# Altium integrated library Infineon_Power_Supply_Voltage_Regulator.IntLib: 346 symbols (part 5 of 16)
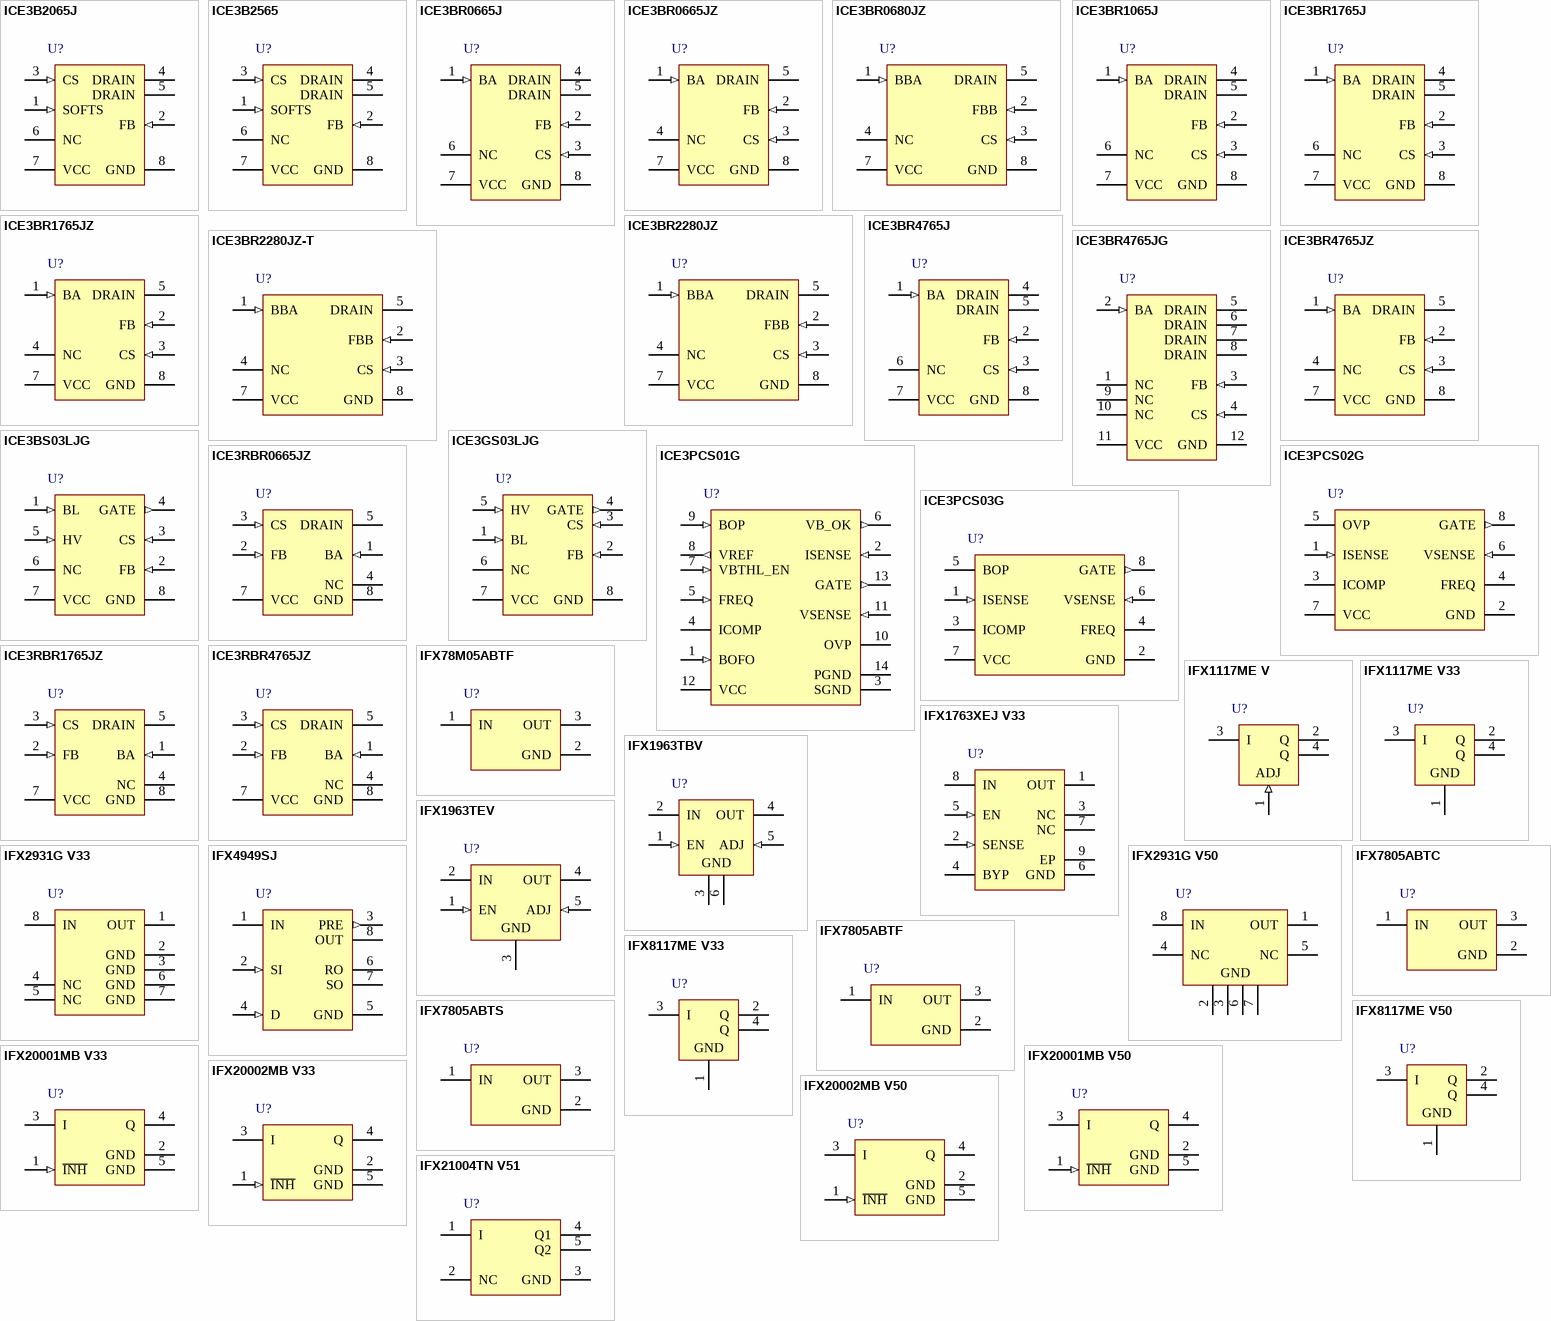
[diagram p13: symbols ICE3B2065J to IFX21004TN V51]

## IFX8117ME V33
designator U?
1 A Low-Dropout Linear Voltage Regulator, 6.25 to 15 V Operating, 1000 mA, -40 to 125 degC, PG-SOT223 (SC-73), Reel, Green; Manufacturer: Infineon; PartNumber: IFX8117ME V33; Accuracy: 1.0 %; Automotive Qualified: FALSE; Dropout Voltage: 1200 mV; Green: TRUE; Max Number Reflow: 3; Max Peak Reflow Temp: 260 degC; Max. Output Current: 1000 mA; Output Voltage: 3.3 V; Regulator Type: Linear->single output; Typical Quiescent Current: 5000 uA; DatasheetVersion: Rev. 1.01; PackageVersion: Apr-08; PackageReference: PG-SOT223 (SC-73); PackageDescription: 4-Pin Small Outline Transistor Package, 6.5 x 3.5 mm Body, 2.3 mm Pitch; Supplier 1: Mouser; Supplier Part Number 1: 726-IFX8117MEV33; Supplier 2: Digi-Key; Supplier Part Number 2: IFX8117ME V33INTR-ND; Supplier 3: Digi-Key; Supplier Part Number 3: IFX8117ME V33INCT-ND; Supplier 4: Digi-Key; Supplier Part Number 4: IFX8117ME V33INDKR-ND; MSL: 1; Packing: Reel; Reset: FALSE; Status Output: FALSE; Mounting Technology: Surface Mount; ComponentLink1Description: Manufacturer URL; ComponentLink1URL: http://www.infineon.com/; ComponentLink2Description: Datasheet; ComponentLink2URL: http://www.infineon.com/dgdl/IFX8117_DS_101.pdf?folderId=db3a30431a5c32f2011a8084a04a6500&fileId=db3a30432a7fedfc012aad7cf26c0b0d; ComponentLink3Description: Package Specification; ComponentLink3URL: http://www.infineon.com/dgdl/SOT223-Package_Overview.pdf?folderId=db3a30431936bc4b0119530470b03c3d&fileId=db3a30431936bc4b0119531d40b93c5c
footprint INF-PG-SOT223_SC-73_N (SOT223, 4-Leads, Body 6.5x3.5mm, Pitch 2.3mm, IPC Medium Density)
footprint INF-PG-SOT223_SC-73_L (SOT223, 4-Leads, Body 6.5x3.5mm, Pitch 2.3mm, IPC High Density)
footprint INF-PG-SOT223_SC-73_M (SOT223, 4-Leads, Body 6.5x3.5mm, Pitch 2.3mm, IPC Low Density)
pins: 1 GND (power), 2 Q (power) "Output", 3 I (power) "Input", 4 Q (power) "Output"

## IFX8117ME V50
designator U?
1 A Low-Dropout Linear Voltage Regulator, 4.55 to 15 V Operating, 1000 mA, -40 to 125 degC, PG-SOT223 (SC-73), Reel, Green; Manufacturer: Infineon; PartNumber: IFX8117ME V50; Accuracy: 1.0 %; Automotive Qualified: FALSE; Dropout Voltage: 1200 mV; Green: TRUE; Max Number Reflow: 3; Max Peak Reflow Temp: 260 degC; Max. Output Current: 1000 mA; Output Voltage: 5 V; Regulator Type: Linear->single output; Typical Quiescent Current: 5000 uA; DatasheetVersion: Rev. 1.01; PackageVersion: Apr-08; PackageReference: PG-SOT223 (SC-73); PackageDescription: 4-Pin Small Outline Transistor Package, 6.5 x 3.5 mm Body, 2.3 mm Pitch; Supplier 1: Mouser; Supplier Part Number 1: 726-IFX8117MEV50; Supplier 2: Digi-Key; Supplier Part Number 2: IFX8117ME V50INTR-ND; Supplier 3: Digi-Key; Supplier Part Number 3: IFX8117ME V50INCT-ND; Supplier 4: Digi-Key; Supplier Part Number 4: IFX8117ME V50INDKR-ND; MSL: 1; Packing: Reel; Reset: FALSE; Status Output: FALSE; Mounting Technology: Surface Mount; ComponentLink1Description: Manufacturer URL; ComponentLink1URL: http://www.infineon.com/; ComponentLink2Description: Datasheet; ComponentLink2URL: http://www.infineon.com/dgdl/IFX8117_DS_101.pdf?folderId=db3a30431a5c32f2011a8084a04a6500&fileId=db3a30432a7fedfc012aad7cf26c0b0d; ComponentLink3Description: Package Specification; ComponentLink3URL: http://www.infineon.com/dgdl/SOT223-Package_Overview.pdf?folderId=db3a30431936bc4b0119530470b03c3d&fileId=db3a30431936bc4b0119531d40b93c5c
footprint INF-PG-SOT223_SC-73_N (SOT223, 4-Leads, Body 6.5x3.5mm, Pitch 2.3mm, IPC Medium Density)
footprint INF-PG-SOT223_SC-73_L (SOT223, 4-Leads, Body 6.5x3.5mm, Pitch 2.3mm, IPC High Density)
footprint INF-PG-SOT223_SC-73_M (SOT223, 4-Leads, Body 6.5x3.5mm, Pitch 2.3mm, IPC Low Density)
pins: 1 GND (power), 2 Q (power) "Output", 3 I (power) "Input", 4 Q (power) "Output"

## IFX20001MB V33
designator U?
Low Dropout Voltage Regulator, 4 to 45 V Operating, 30 mA, -40 to 125 degC, PG-SCT595, Reel, Green; Manufacturer: Infineon; PartNumber: IFX20001MB V33; Accuracy: 4.0 %; Automotive Qualified: FALSE; Dropout Voltage: 250 mV; Green: TRUE; Max Number Reflow: 3; Max Peak Reflow Temp: 260 degC; Max. Output Current: 30 mA; Output Voltage: 3.3 V; Regulator Type: Linear->single output; Typical Quiescent Current: 110 uA; DatasheetVersion: Rev. 1.1; PackageVersion: Apr-08; PackageReference: PG-SCT595; PackageDescription: 5-Pin Semiconductor Transistor Package, 2.9 x 1.6 mm Body, 0.95 mm Pitch; Supplier 1: Mouser; Supplier Part Number 1: 726-IFX20001MBV33; Supplier 2: Newark; Supplier Part Number 2: 78X5179; Supplier 3: Farnell; Supplier Part Number 3: 2432502; Supplier 4: Digi-Key; Supplier Part Number 4: IFX20001MB V33INTR-ND; Supplier 5: Digi-Key; Supplier Part Number 5: IFX20001MB V33INCT-ND; Supplier 6: Digi-Key; Supplier Part Number 6: IFX20001MB V33INDKR-ND; MSL: 1; Packing: Reel; Reset: FALSE; Status Output: FALSE; Mounting Technology: Surface Mount; ComponentLink1Description: Manufacturer URL; ComponentLink1URL: http://www.infineon.com/; ComponentLink2Description: Datasheet; ComponentLink2URL: http://www.infineon.com/dgdl/IFX20001-Data-Sheet-11-Infineon.pdf?folderId=db3a30431ff988150120802bce1d257a&fileId=db3a304320d39d590120f61b55b769ca; ComponentLink3Description: Package Specification; ComponentLink3URL: http://www.infineon.com/dgdl/SCT595-Package_Overview.pdf?folderId=db3a30431936bc4b01195289a4e23b8a&fileId=db3a30431936bc4b0119529a880d3bb2
footprint INF-PG-SCT595_V (SOT23, 5-Leads, Body 2.9x1.6mm, Pitch 0.95mm)
pins: 1 ~{INH} (in) "Inhibit input; high level to turn on the IC", 2 GND (power) "Ground; connected to pin 5", 3 I (power) "Input voltage", 4 Q (power) "Output voltage; must be blocked with a capacitor CQ > = 3.3 uF", 5 GND (power) "Ground; connected to pin 2"

## IFX20001MB V50
designator U?
Low Dropout Voltage Regulator, 5.5 to 45 V Operating, 30 mA, -40 to 125 degC, PG-SCT595, Reel, Green; Manufacturer: Infineon; PartNumber: IFX20001MB V50; Accuracy: 4.0 %; Automotive Qualified: FALSE; Dropout Voltage: 250 mV; Green: TRUE; Max Number Reflow: 3; Max Peak Reflow Temp: 260 degC; Max. Output Current: 30 mA; Output Voltage: 5 V; Regulator Type: Linear->single output; Typical Quiescent Current: 110 uA; DatasheetVersion: Rev. 1.1; PackageVersion: Apr-08; PackageReference: PG-SCT595; PackageDescription: 5-Pin Semiconductor Transistor Package, 2.9 x 1.6 mm Body, 0.95 mm Pitch; Supplier 1: Mouser; Supplier Part Number 1: 726-IFX20001MBV50; Supplier 2: Newark; Supplier Part Number 2: 47W3451; Supplier 3: Farnell; Supplier Part Number 3: 2215568; Supplier 4: Digi-Key; Supplier Part Number 4: IFX20001MB V50INTR-ND; Supplier 5: Digi-Key; Supplier Part Number 5: IFX20001MB V50INCT-ND; Supplier 6: Digi-Key; Supplier Part Number 6: IFX20001MB V50INDKR-ND; MSL: 1; Packing: Reel; Reset: FALSE; Status Output: FALSE; Mounting Technology: Surface Mount; ComponentLink1Description: Manufacturer URL; ComponentLink1URL: http://www.infineon.com/; ComponentLink2Description: Datasheet; ComponentLink2URL: http://www.infineon.com/dgdl/IFX20001-Data-Sheet-11-Infineon.pdf?folderId=db3a30431ff988150120802bce1d257a&fileId=db3a304320d39d590120f61b55b769ca; ComponentLink3Description: Package Specification; ComponentLink3URL: http://www.infineon.com/dgdl/SCT595-Package_Overview.pdf?folderId=db3a30431936bc4b01195289a4e23b8a&fileId=db3a30431936bc4b0119529a880d3bb2
footprint INF-PG-SCT595_V (SOT23, 5-Leads, Body 2.9x1.6mm, Pitch 0.95mm)
pins: 1 ~{INH} (in) "Inhibit Input", 2 GND (power) "Ground", 3 I (power) "Input Voltage", 4 Q (power) "Output voltage", 5 GND (power) "Ground"

## IFX20002MB V33
designator U?
Low Dropout Voltage Regulator, 4.5 to 45 V Operating, 30 mA, -40 to 125 degC, PG-SCT595, Reel, Green; Manufacturer: Infineon; PartNumber: IFX20002MB V33; Accuracy: 4.0 %; Automotive Qualified: FALSE; Dropout Voltage: 250 mV; Green: TRUE; Max Number Reflow: 3; Max Peak Reflow Temp: 260 degC; Max. Output Current: 30 mA; Output Voltage: 3.3 V; Regulator Type: single output; Typical Quiescent Current: 130 uA; DatasheetVersion: Rev. 1.0; PackageVersion: Apr-08; PackageReference: PG-SCT595; PackageDescription: 5-Pin Semiconductor Transistor Package, 2.9 x 1.6 mm Body, 0.95 mm Pitch; MSL: 1; Packing: Reel; Reset: FALSE; Status Output: FALSE; Mounting Technology: Surface Mount; ComponentLink1Description: Manufacturer URL; ComponentLink1URL: http://www.infineon.com/; ComponentLink2Description: Datasheet; ComponentLink2URL: http://www.infineon.com/dgdl/IFX20002-Data-Sheet-10-Infineon.pdf?folderId=db3a30431f848401011fcbf221ff04c3&fileId=db3a30433d68e984013d82fb138a7932; ComponentLink3Description: Package Specification; ComponentLink3URL: http://www.infineon.com/dgdl/SCT595-Package_Overview.pdf?folderId=db3a30431936bc4b01195289a4e23b8a&fileId=db3a30431936bc4b0119529a880d3bb2
footprint INF-PG-SCT595_V (SOT23, 5-Leads, Body 2.9x1.6mm, Pitch 0.95mm)
pins: 1 ~{INH} (in) "Inhibit Input", 2 GND (power) "Ground", 3 I (power) "Input Voltage", 4 Q (power) "Output voltage", 5 GND (power) "Ground"

## IFX20002MB V50
designator U?
Low Dropout Voltage Regulator, 5.5 to 45 V Operating, 30 mA, -40 to 125 degC, PG-SCT595, Reel, Green; Manufacturer: Infineon; PartNumber: IFX20002MB V50; Accuracy: 4.0 %; Automotive Qualified: FALSE; Dropout Voltage: 250 mV; Green: TRUE; Max Number Reflow: 3; Max Peak Reflow Temp: 260 degC; Max. Output Current: 30 mA; Output Voltage: 5 V; Regulator Type: single output; Typical Quiescent Current: 130 uA; DatasheetVersion: Rev. 1.0; PackageVersion: Apr-08; PackageReference: PG-SCT595; PackageDescription: 5-Pin Semiconductor Transistor Package, 2.9 x 1.6 mm Body, 0.95 mm Pitch; MSL: 1; Packing: Reel; Reset: FALSE; Status Output: FALSE; Mounting Technology: Surface Mount; ComponentLink1Description: Manufacturer URL; ComponentLink1URL: http://www.infineon.com/; ComponentLink2Description: Datasheet; ComponentLink2URL: http://www.infineon.com/dgdl/IFX20002-Data-Sheet-10-Infineon.pdf?folderId=db3a30431f848401011fcbf221ff04c3&fileId=db3a30433d68e984013d82fb138a7932; ComponentLink3Description: Package Specification; ComponentLink3URL: http://www.infineon.com/dgdl/SCT595-Package_Overview.pdf?folderId=db3a30431936bc4b01195289a4e23b8a&fileId=db3a30431936bc4b0119529a880d3bb2
footprint INF-PG-SCT595_V (SOT23, 5-Leads, Body 2.9x1.6mm, Pitch 0.95mm)
pins: 1 ~{INH} (in) "Inhibit Input", 2 GND (power) "Ground", 3 I (power) "Input Voltage", 4 Q (power) "Output voltage", 5 GND (power) "Ground"

## IFX21004TN V51
designator U?
Dual Voltage Regulator with 5 V and 15 V Outputs, 12 to 60 V Operating, 100 mA / 30 mA, -40 to 125 degC, PG-TO220-5-12, Reel, Green; Manufacturer: Infineon; PartNumber: IFX21004TN V51; Accuracy: 5.0 %, 5 %; Automotive Qualified: FALSE; Dropout Voltage: 5000/3000 mV; Green: TRUE; Output Voltage: 5 V / 15 V; Regulator Type: Linear->multiple output; Typical Quiescent Current: 700 uA; DatasheetVersion: Rev. 1.00; PackageVersion: Oct-07; PackageReference: PG-TO220-5-12; PackageDescription: 5-Pin Plastic (Green) Transistor Single Outline Package, 10 x 9.25 mm Body, 1.7 mm Pitch; Supplier 1: Mouser; Supplier Part Number 1: 726-IFX21004TNV51; Halogen-free: TRUE; Max. Output Current: 100 mA/30 mA; Packing: Reel; Reset: FALSE; Status Output: FALSE; Mounting Technology: Through Hole; ComponentLink1Description: Manufacturer URL; ComponentLink1URL: http://www.infineon.com/; ComponentLink2Description: Datasheet; ComponentLink2URL: http://www.infineon.com/dgdl/IFX21004TN-V51-Data+Sheet-Infineon-v10.pdf?folderId=db3a30431a5c32f2011a8084a04a6500&fileId=db3a30432cd42ee3012cdfd272526aa1; ComponentLink3Description: Package Specification; ComponentLink3URL: http://www.infineon.com/dgdl/TLE4276_DS_27.pdf?folderId=db3a304318f3fe290118f5a433570040&fileId=db3a30431c48a312011c5093e2fe003f&sId=db3a30443d67b5ca013d81e346312d68
footprint INF-PG-TO220-5-12 (FM, 5-Leads, Body 10x4.4mm, Pitch 1.7mm)
pins: 1 I (power) "Input voltage", 2 NC "not connected", 3 GND (power) "Ground", 4 Q1 (power) "5V-Output voltage, e.g. for microcontroller and logic circuit", 5 Q2 (power) "15V-Output voltage, e.g. for MOS driver circuit"

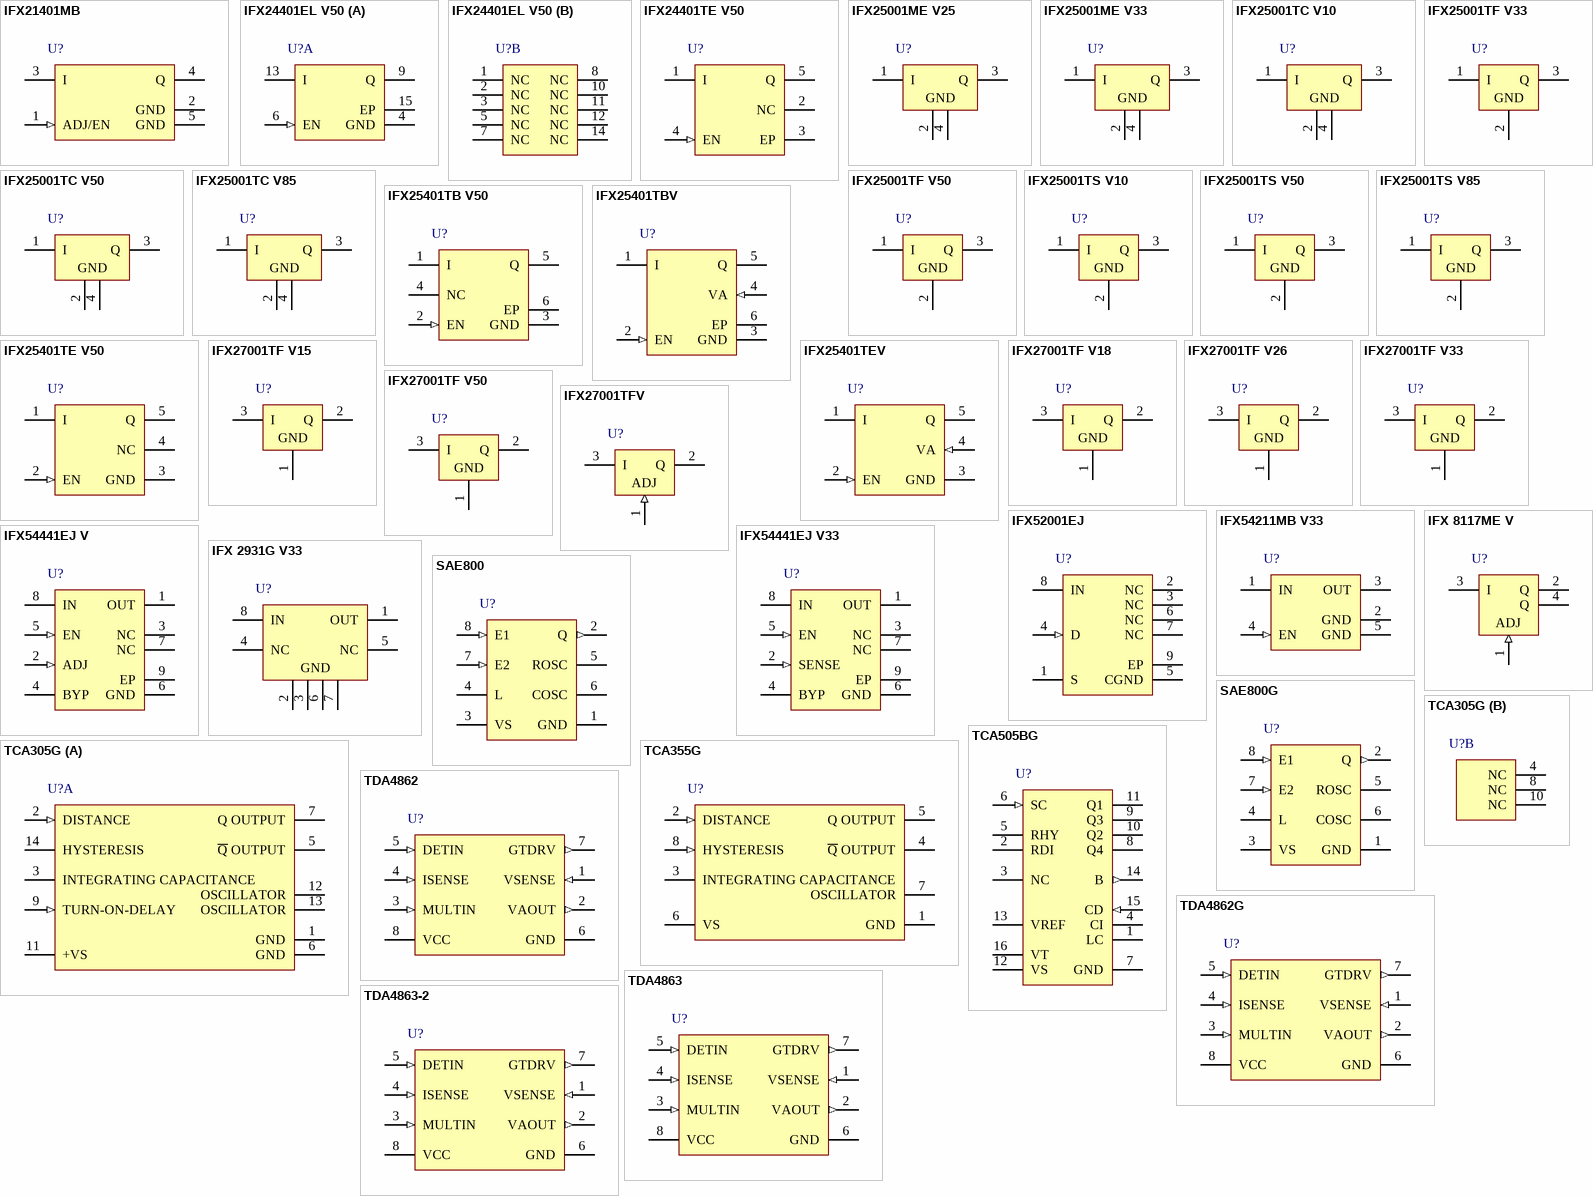
[diagram p3: symbols IFX21401MB to TDA4863-2]

## IFX21401MB
designator U?
Low Dropout Voltage Tracking Regulator, 4 to 45 V Operating, 50 mA, -40 to 125 degC, PG-SCT595, Reel, Green; Manufacturer: Infineon; PartNumber: IFX21401MB; Accuracy: 0.5 %; Automotive Qualified: FALSE; Dropout Voltage: 300 mV; Green: TRUE; Max Number Reflow: 3; Max Peak Reflow Temp: 260 degC; Max. Output Current: 50 mA; Output Voltage: adj.; Regulator Type: Linear->tracker; Typical Quiescent Current: 140 uA; DatasheetVersion: Rev. 1.01; PackageVersion: Apr-08; PackageReference: PG-SCT595; PackageDescription: 5-Pin Semiconductor Transistor Package, 2.9 x 1.6 mm Body, 0.95 mm Pitch; Supplier 1: Mouser; Supplier Part Number 1: 726-IFX21401MB; Supplier 2: Newark; Supplier Part Number 2: 47W3452; Supplier 3: Farnell; Supplier Part Number 3: 2215570; Supplier 4: Digi-Key; Supplier Part Number 4: IFX21401MBINTR-ND; Supplier 5: Digi-Key; Supplier Part Number 5: IFX21401MBINCT-ND; Supplier 6: Digi-Key; Supplier Part Number 6: IFX21401MBINDKR-ND; MSL: 1; Packing: Reel; Reset: FALSE; Status Output: FALSE; Mounting Technology: Surface Mount; ComponentLink1Description: Manufacturer URL; ComponentLink1URL: http://www.infineon.com/; ComponentLink2Description: Datasheet; ComponentLink2URL: http://www.infineon.com/dgdl/IFX21401_DS_101.pdf?folderId=db3a30431ff988150120802bce1d257a&fileId=db3a304320d39d590120f61daff769d0; ComponentLink3Description: Package Specification; ComponentLink3URL: http://www.infineon.com/dgdl/SCT595-Package_Overview.pdf?folderId=db3a30431936bc4b01195289a4e23b8a&fileId=db3a30431936bc4b0119529a880d3bb2
footprint INF-PG-SCT595_V (SOT23, 5-Leads, Body 2.9x1.6mm, Pitch 0.95mm)
pins: 1 ADJ/EN (in) "Adjust / Enable.", 2 GND (power) "Ground Reference.", 3 I (power) "Input.", 4 Q (power) "Tracker Output.", 5 GND (power) "Ground Reference."

## IFX24401EL V50
designator U?
Low Dropout Voltage Regulator, 5.5 to 42 V Operating, 300 mA, -40 to 125 degC, PG-SSOP-14-1, Reel, Green; Manufacturer: Infineon; PartNumber: IFX24401EL V50; Accuracy: 2.0 %; Automotive Qualified: FALSE; Dropout Voltage: 250 mV; Green: TRUE; Max Number Reflow: 3; Max Peak Reflow Temp: 260 degC; Max. Output Current: 300 mA; Output Voltage: 5 V; Regulator Type: Linear->single output; Typical Quiescent Current: 20 uA; DatasheetVersion: Rev. 1.02; PackageVersion: Oct-08; PackageReference: PG-SSOP-14-1; PackageDescription: 14-Pin Plastic (Green) Shrink Small Outline Package, 4.9 x 3.9 mm Body, 0.65 mm Pitch; Supplier 1: Mouser; Supplier Part Number 1: 726-IFX24401ELV50; Supplier 2: Digi-Key; Supplier Part Number 2: IFX24401EL V50INTR-ND; Supplier 3: Digi-Key; Supplier Part Number 3: IFX24401EL V50INCT-ND; Supplier 4: Digi-Key; Supplier Part Number 4: IFX24401EL V50INDKR-ND; Halogen-free: TRUE; MSL: 3; Packing: Reel; Reset: FALSE; Status Output: FALSE; Mounting Technology: Surface Mount; ComponentLink1Description: Manufacturer URL; ComponentLink1URL: http://www.infineon.com/; ComponentLink2Description: Datasheet; ComponentLink2URL: http://www.infineon.com/dgdl/IFX24401_DS_102.pdf?folderId=db3a30431ff988150120802bce1d257a&fileId=db3a304320d39d590120f61fb4d269d5; ComponentLink3Description: Package Specification; ComponentLink3URL: http://www.infineon.com/dgdl/PG-SSOP-14-1%2C-2%2C-3-Package_Overview.pdf?folderId=db3a304319bc939a0119bdaa53bc000b&fileId=db3a30431cdffaa4011ce10d798a0009
footprint INF-PG-SSOP-14-1_N (SOP, 14-Leads, Body 4.9x3.9mm, Pitch 0.65mm, Thermal Pad 3.2x2.85mm, IPC Medium Density)
footprint INF-PG-SSOP-14-1_L (SOP, 14-Leads, Body 4.9x3.9mm, Pitch 0.65mm, Thermal Pad 3.2x2.85mm, IPC High Density)
footprint INF-PG-SSOP-14-1_M (SOP, 14-Leads, Body 4.9x3.9mm, Pitch 0.65mm, Thermal Pad 3.2x2.85mm, IPC Low Density)
part A pins: 4 GND (power) "Ground", 6 EN (in) "Enable Input", 9 Q (power) "Output", 13 I (power) "Input", 15 EP (power) "Exposed Pad"
part B pins: 1 NC "No Connect", 2 NC "No Connect", 3 NC "No Connect", 5 NC "No Connect", 7 NC "No Connect", 8 NC "No Connect", 10 NC "No Connect", 11 NC "No Connect", 12 NC "No Connect", 14 NC "No Connect"

## IFX24401TE V50
designator U?
Low Dropout Voltage Regulator, 5.5 to 42 V Operating, 300 mA, -40 to 125 degC, PG-TO252-5-11, Reel, Green; Manufacturer: Infineon; PartNumber: IFX24401TE V50; Accuracy: 2.0 %; Automotive Qualified: FALSE; Dropout Voltage: 250 mV; Green: TRUE; Max Number Reflow: 3; Max Peak Reflow Temp: 260 degC; Max. Output Current: 300 mA; Output Voltage: 5 V; Regulator Type: Linear->single output; Typical Quiescent Current: 20 uA; DatasheetVersion: Rev. 1.02; PackageVersion: Nov-10; PackageReference: PG-TO252-5-11; PackageDescription: 5-Pin Plastic (Green) Transistor Single Outline Package, 6.5 x 6.12 mm Body, 1.14 mm Pitch; Supplier 1: Mouser; Supplier Part Number 1: 726-IFX24401TEV50; Supplier 2: Digi-Key; Supplier Part Number 2: IFX24401TE V50INTR-ND; Supplier 3: Digi-Key; Supplier Part Number 3: IFX24401TE V50INCT-ND; Supplier 4: Digi-Key; Supplier Part Number 4: IFX24401TE V50INDKR-ND; Halogen-free: TRUE; MSL: 1; Packing: Reel; Reset: FALSE; Status Output: FALSE; Mounting Technology: Surface Mount; ComponentLink1Description: Manufacturer URL; ComponentLink1URL: http://www.infineon.com/; ComponentLink2Description: Datasheet; ComponentLink2URL: http://www.infineon.com/dgdl/IFX24401_DS_102.pdf?folderId=db3a30431ff988150120802bce1d257a&fileId=db3a304320d39d590120f61fb4d269d5; ComponentLink3Description: Package Specification; ComponentLink3URL: http://www.infineon.com/dgdl/TLE7276-Data+Sheet-+v1_11.pdf?folderId=db3a304412b407950112b408e8c90004&fileId=db3a304412b407950112b436c53f66c8&sId=db3a30433db6f09f013dc0e43c0428c1
footprint INF-PG-TO252-5-11_N (DPAK, 5-Leads, Body 6.5x6.12mm, Pitch 1.14mm, IPC Medium Density)
footprint INF-PG-TO252-5-11_L (DPAK, 5-Leads, Body 6.5x6.12mm, Pitch 1.14mm, IPC High Density)
footprint INF-PG-TO252-5-11_M (DPAK, 5-Leads, Body 6.5x6.12mm, Pitch 1.14mm, IPC Low Density)
pins: 1 I (power) "Input", 2 NC "No Connect", 3 EP (power) "Heat Slug", 4 EN (in) "Enable Input", 5 Q (power) "Output"

## IFX25001ME V25
designator U?
Low Dropout Voltage Regulator, 4.7 to 40 V Operating, 400 mA, -40 to 125 degC, PG-SOT223 (SC-73), Reel, Green; Manufacturer: Infineon; PartNumber: IFX25001ME V25; Accuracy: 4.0 %; Automotive Qualified: FALSE; Dropout Voltage: 1000 mV; Green: TRUE; Max Number Reflow: 3; Max Peak Reflow Temp: 260 degreesC; Max. Output Current: 400 mA; Output Voltage: 2.5 V; Regulator Type: Linear->single output; Typical Quiescent Current: 100 uA; DatasheetVersion: Rev. 1.02; PackageVersion: Apr-08; PackageReference: PG-SOT223 (SC-73); PackageDescription: 4-Pin Small Outline Transistor Package, 6.5 x 3.5 mm Body, 2.3 mm Pitch; Supplier 1: Mouser; Supplier Part Number 1: 726-IFX25001MEV25; Supplier 2: Digi-Key; Supplier Part Number 2: IFX25001ME V25INTR-ND; Supplier 3: Digi-Key; Supplier Part Number 3: IFX25001ME V25INCT-ND; Supplier 4: Digi-Key; Supplier Part Number 4: IFX25001ME V25INDKR-ND; MSL: 1; Packing: Reel; Reset: FALSE; Status Output: FALSE; Mounting Technology: Surface Mount; ComponentLink1Description: Manufacturer URL; ComponentLink1URL: http://www.infineon.com/; ComponentLink2Description: Datasheet; ComponentLink2URL: http://www.infineon.com/dgdl/IFX25001_DS_102.pdf?folderId=db3a30431ff988150120802bce1d257a&fileId=db3a304320d39d590120f620f1e269da; ComponentLink3Description: Package Specification; ComponentLink3URL: http://www.infineon.com/dgdl/SOT223-Package_Overview.pdf?folderId=db3a30431936bc4b0119530470b03c3d&fileId=db3a30431936bc4b0119531d40b93c5c
footprint INF-PG-SOT223_SC-73_N (SOT223, 4-Leads, Body 6.5x3.5mm, Pitch 2.3mm, IPC Medium Density)
footprint INF-PG-SOT223_SC-73_L (SOT223, 4-Leads, Body 6.5x3.5mm, Pitch 2.3mm, IPC High Density)
footprint INF-PG-SOT223_SC-73_M (SOT223, 4-Leads, Body 6.5x3.5mm, Pitch 2.3mm, IPC Low Density)
pins: 1 I (power) "Input", 2 GND (power) "Ground", 3 Q (power) "Output", 4 GND (power) "Heat Slug"

## IFX25001ME V33
designator U?
Low Dropout Voltage Regulator, 4.7 to 40 V Operating, 400 mA, -40 to 125 degC, PG-SOT223 (SC-73), Reel, Green; Manufacturer: Infineon; PartNumber: IFX25001ME V33; Accuracy: 4.0 %; Automotive Qualified: FALSE; Dropout Voltage: 700 mV; Green: TRUE; Max Number Reflow: 3; Max Peak Reflow Temp: 260 degreesC; Max. Output Current: 400 mA; Output Voltage: 3.3 V; Regulator Type: Linear->single output; Typical Quiescent Current: 100 uA; DatasheetVersion: Rev. 1.02; PackageVersion: Apr-08; PackageReference: PG-SOT223 (SC-73); PackageDescription: 4-Pin Small Outline Transistor Package, 6.5 x 3.5 mm Body, 2.3 mm Pitch; Supplier 1: Mouser; Supplier Part Number 1: 726-IFX25001MEV33; Supplier 2: Newark; Supplier Part Number 2: 47W3453; Supplier 3: Farnell; Supplier Part Number 3: 2215569; Supplier 4: Digi-Key; Supplier Part Number 4: IFX25001ME V33INTR-ND; Supplier 5: Digi-Key; Supplier Part Number 5: IFX25001ME V33INCT-ND; Supplier 6: Digi-Key; Supplier Part Number 6: IFX25001ME V33INDKR-ND; MSL: 1; Packing: Reel; Reset: FALSE; Status Output: FALSE; Mounting Technology: Surface Mount; ComponentLink1Description: Manufacturer URL; ComponentLink1URL: http://www.infineon.com/; ComponentLink2Description: Datasheet; ComponentLink2URL: http://www.infineon.com/dgdl/IFX25001_DS_102.pdf?folderId=db3a30431ff988150120802bce1d257a&fileId=db3a304320d39d590120f620f1e269da; ComponentLink3Description: Package Specification; ComponentLink3URL: http://www.infineon.com/dgdl/SOT223-Package_Overview.pdf?folderId=db3a30431936bc4b0119530470b03c3d&fileId=db3a30431936bc4b0119531d40b93c5c
footprint INF-PG-SOT223_SC-73_N (SOT223, 4-Leads, Body 6.5x3.5mm, Pitch 2.3mm, IPC Medium Density)
footprint INF-PG-SOT223_SC-73_L (SOT223, 4-Leads, Body 6.5x3.5mm, Pitch 2.3mm, IPC High Density)
footprint INF-PG-SOT223_SC-73_M (SOT223, 4-Leads, Body 6.5x3.5mm, Pitch 2.3mm, IPC Low Density)
pins: 1 I (power) "Input", 2 GND (power) "Ground", 3 Q (power) "Output", 4 GND (power) "Heat Slug"

## IFX25001TC V10
designator U?
Low Dropout Voltage Regulator, 10.5 to 40 V Operating, 400 mA, -40 to 125 degC, PG-TO263-3-1, Reel, Green; Manufacturer: Infineon; PartNumber: IFX25001TC V10; Accuracy: 4.0 %; Automotive Qualified: FALSE; Dropout Voltage: 250 mV; Green: TRUE; Max Number Reflow: 3; Max Peak Reflow Temp: 260 degreesC; Max. Output Current: 400 mA; Output Voltage: 10 V; Regulator Type: Linear->single output; Typical Quiescent Current: 100 uA; DatasheetVersion: Rev. 1.02; PackageVersion: Jan-10; PackageReference: PG-TO263-3-1; PackageDescription: 3-Pin Plastic (Green) Transistor Single Outline Package, 10 x 9.25 mm Body, 2.54 mm Pitch; Supplier 1: Mouser; Supplier Part Number 1: 726-IFX25001TCV10; Supplier 2: Digi-Key; Supplier Part Number 2: IFX25001TC V10INTR-ND; Supplier 3: Digi-Key; Supplier Part Number 3: IFX25001TC V10INCT-ND; Supplier 4: Digi-Key; Supplier Part Number 4: IFX25001TC V10INDKR-ND; Halogen-free: TRUE; MSL: 1; Packing: Reel; Reset: FALSE; Status Output: FALSE; Mounting Technology: Surface Mount; ComponentLink1Description: Manufacturer URL; ComponentLink1URL: http://www.infineon.com/; ComponentLink2Description: Datasheet; ComponentLink2URL: http://www.infineon.com/dgdl/IFX25001_DS_102.pdf?folderId=db3a30431ff988150120802bce1d257a&fileId=db3a304320d39d590120f620f1e269da; ComponentLink3Description: Package Specification; ComponentLink3URL: http://www.infineon.com/dgdl/TLE42744_DS_11.pdf?folderId=db3a304318f3fe290118f5a433570040&fileId=db3a304327b897500128012ccafe37d2&sId=db3a30443d67b5ca013d83f7c0ea327b
footprint INF-PG-TO263-3-1_N (DPAK, 3-Leads, Body 10x9.25mm, Pitch 2.54mm, IPC Medium Density)
footprint INF-PG-TO263-3-1_L (DPAK, 3-Leads, Body 10x9.25mm, Pitch 2.54mm, IPC High Density)
footprint INF-PG-TO263-3-1_M (DPAK, 3-Leads, Body 10x9.25mm, Pitch 2.54mm, IPC Low Density)
pins: 1 I (power) "Input", 2 GND (power) "Ground", 3 Q (power) "Output", 4 GND (power) "Heat Slug"

## IFX25001TC V50
designator U?
Low Dropout Voltage Regulator, 5.5 to 40 V Operating, 400 mA, -40 to 125 degC, PG-TO263-3-1, Reel, Green; Manufacturer: Infineon; PartNumber: IFX25001TC V50; Accuracy: 4.0 %; Automotive Qualified: FALSE; Dropout Voltage: 250 mV; Green: TRUE; Max Number Reflow: 3; Max Peak Reflow Temp: 260 degreesC; Max. Output Current: 400 mA; Output Voltage: 5 V; Regulator Type: Linear->single output; Typical Quiescent Current: 100 uA; DatasheetVersion: Rev. 1.02; PackageVersion: Jan-10; PackageReference: PG-TO263-3-1; PackageDescription: 3-Pin Plastic (Green) Transistor Single Outline Package, 10 x 9.25 mm Body, 2.54 mm Pitch; Supplier 1: Mouser; Supplier Part Number 1: 726-IFX25001TCV50; Supplier 2: Digi-Key; Supplier Part Number 2: IFX25001TC V50INTR-ND; Supplier 3: Digi-Key; Supplier Part Number 3: IFX25001TC V50INCT-ND; Supplier 4: Digi-Key; Supplier Part Number 4: IFX25001TC V50INDKR-ND; Halogen-free: TRUE; MSL: 1; Packing: Reel; Reset: FALSE; Status Output: FALSE; Mounting Technology: Surface Mount; ComponentLink1Description: Manufacturer URL; ComponentLink1URL: http://www.infineon.com/; ComponentLink2Description: Datasheet; ComponentLink2URL: http://www.infineon.com/dgdl/IFX25001_DS_102.pdf?folderId=db3a30431ff988150120802bce1d257a&fileId=db3a304320d39d590120f620f1e269da; ComponentLink3Description: Package Specification; ComponentLink3URL: http://www.infineon.com/dgdl/TLE42744_DS_11.pdf?folderId=db3a304318f3fe290118f5a433570040&fileId=db3a304327b897500128012ccafe37d2&sId=db3a30443d67b5ca013d83f7c0ea327b
footprint INF-PG-TO263-3-1_N (DPAK, 3-Leads, Body 10x9.25mm, Pitch 2.54mm, IPC Medium Density)
footprint INF-PG-TO263-3-1_L (DPAK, 3-Leads, Body 10x9.25mm, Pitch 2.54mm, IPC High Density)
footprint INF-PG-TO263-3-1_M (DPAK, 3-Leads, Body 10x9.25mm, Pitch 2.54mm, IPC Low Density)
pins: 1 I (power) "Input", 2 GND (power) "Ground", 3 Q (power) "Output", 4 GND (power) "Heat Slug"

## IFX25001TC V85
designator U?
Low Dropout Voltage Regulator, 9 to 40 V Operating, 400 mA, -40 to 125 degC, PG-TO263-3-1, Reel, Green; Manufacturer: Infineon; PartNumber: IFX25001TC V85; Accuracy: 4.0 %; Automotive Qualified: FALSE; Dropout Voltage: 250 mV; Green: TRUE; Max Number Reflow: 3; Max Peak Reflow Temp: 260 degreesC; Max. Output Current: 400 mA; Output Voltage: 8.5 V; Regulator Type: Linear->single output; Typical Quiescent Current: 100 uA; DatasheetVersion: Rev. 1.02; PackageVersion: Jan-10; PackageReference: PG-TO263-3-1; PackageDescription: 3-Pin Plastic (Green) Transistor Single Outline Package, 10 x 9.25 mm Body, 2.54 mm Pitch; Supplier 1: Mouser; Supplier Part Number 1: 726-IFX25001TCV85; Supplier 2: Digi-Key; Supplier Part Number 2: IFX25001TC V85INTR-ND; Supplier 3: Digi-Key; Supplier Part Number 3: IFX25001TC V85INCT-ND; Supplier 4: Digi-Key; Supplier Part Number 4: IFX25001TC V85INDKR-ND; Halogen-free: TRUE; MSL: 1; Packing: Reel; Reset: FALSE; Status Output: FALSE; Mounting Technology: Surface Mount; ComponentLink1Description: Manufacturer URL; ComponentLink1URL: http://www.infineon.com/; ComponentLink2Description: Datasheet; ComponentLink2URL: http://www.infineon.com/dgdl/IFX25001_DS_102.pdf?folderId=db3a30431ff988150120802bce1d257a&fileId=db3a304320d39d590120f620f1e269da; ComponentLink3Description: Package Specification; ComponentLink3URL: http://www.infineon.com/dgdl/TLE42744_DS_11.pdf?folderId=db3a304318f3fe290118f5a433570040&fileId=db3a304327b897500128012ccafe37d2&sId=db3a30443d67b5ca013d83f7c0ea327b
footprint INF-PG-TO263-3-1_N (DPAK, 3-Leads, Body 10x9.25mm, Pitch 2.54mm, IPC Medium Density)
footprint INF-PG-TO263-3-1_L (DPAK, 3-Leads, Body 10x9.25mm, Pitch 2.54mm, IPC High Density)
footprint INF-PG-TO263-3-1_M (DPAK, 3-Leads, Body 10x9.25mm, Pitch 2.54mm, IPC Low Density)
pins: 1 I (power) "Input", 2 GND (power) "Ground", 3 Q (power) "Output", 4 GND (power) "Heat Slug"

## IFX25001TF V33
designator U?
Low Dropout Voltage Regulator, 4.7 to 40 V Operating, 400 mA, -40 to 125 degC, PG-TO252-3-1, Reel, Green; Manufacturer: Infineon; PartNumber: IFX25001TF V33; Accuracy: 4.0 %; Automotive Qualified: FALSE; Dropout Voltage: 700 mV; Green: TRUE; Max Number Reflow: 3; Max Peak Reflow Temp: 260 degreesC; Max. Output Current: 400 mA; Output Voltage: 3.3 V; Regulator Type: Linear->single output; Typical Quiescent Current: 100 uA; DatasheetVersion: Rev. 1.02; PackageVersion: Jan-10; PackageReference: PG-TO252-3-1; PackageDescription: 3-Pin Plastic (Green) Transistor Single Outline Package, 6.5 x 6.12 mm Body, 2.28 mm Pitch; Supplier 1: Mouser; Supplier Part Number 1: 726-IFX25001TFV33; Supplier 2: Digi-Key; Supplier Part Number 2: IFX25001TF V33INTR-ND; Supplier 3: Digi-Key; Supplier Part Number 3: IFX25001TF V33INCT-ND; Supplier 4: Digi-Key; Supplier Part Number 4: IFX25001TF V33INDKR-ND; Halogen-free: TRUE; MSL: 1; Packing: Reel; Reset: FALSE; Status Output: FALSE; Mounting Technology: Surface Mount; ComponentLink1Description: Manufacturer URL; ComponentLink1URL: http://www.infineon.com/; ComponentLink2Description: Datasheet; ComponentLink2URL: http://www.infineon.com/dgdl/IFX25001_DS_102.pdf?folderId=db3a30431ff988150120802bce1d257a&fileId=db3a304320d39d590120f620f1e269da; ComponentLink3Description: Package Specification; ComponentLink3URL: http://www.infineon.com/dgdl/TLE42744_DS_11.pdf?folderId=db3a304318f3fe290118f5a433570040&fileId=db3a304327b897500128012ccafe37d2&sId=db3a30443d67b5ca013d83f7c0ea327b
footprint INF-PG-TO252-3-1_N (DPAK, 3-Leads, Body 6.525x6.12mm, Pitch 2.28mm, IPC Medium Density)
footprint INF-PG-TO252-3-1_L (DPAK, 3-Leads, Body 6.525x6.12mm, Pitch 2.28mm, IPC High Density)
footprint INF-PG-TO252-3-1_M (DPAK, 3-Leads, Body 6.525x6.12mm, Pitch 2.28mm, IPC Low Density)
pins: 1 I (power) "Input", 2 GND (power), 3 Q (power) "Output"

## IFX25001TF V50
designator U?
Low Dropout Voltage Regulator, 5.5 to 40 V Operating, 400 mA, -40 to 125 degC, PG-TO252-3-1, Reel, Green; Manufacturer: Infineon; PartNumber: IFX25001TF V50; Accuracy: 4.0 %; Automotive Qualified: FALSE; Dropout Voltage: 250 mV; Green: TRUE; Max Number Reflow: 3; Max Peak Reflow Temp: 260 degreesC; Max. Output Current: 400 mA; Output Voltage: 5 V; Regulator Type: Linear->single output; Typical Quiescent Current: 100 uA; DatasheetVersion: Rev. 1.02; PackageVersion: Jan-10; PackageReference: PG-TO252-3-1; PackageDescription: 3-Pin Plastic (Green) Transistor Single Outline Package, 6.5 x 6.12 mm Body, 2.28 mm Pitch; Supplier 1: Mouser; Supplier Part Number 1: 726-IFX25001TFV50; Supplier 2: Newark; Supplier Part Number 2: 47W3454; Supplier 3: Farnell; Supplier Part Number 3: 2215565; Supplier 4: Digi-Key; Supplier Part Number 4: IFX25001TF V50INTR-ND; Supplier 5: Digi-Key; Supplier Part Number 5: IFX25001TF V50INCT-ND; Supplier 6: Digi-Key; Supplier Part Number 6: IFX25001TF V50INDKR-ND; Halogen-free: TRUE; MSL: 1; Packing: Reel; Reset: FALSE; Status Output: FALSE; Mounting Technology: Surface Mount; ComponentLink1Description: Manufacturer URL; ComponentLink1URL: http://www.infineon.com/; ComponentLink2Description: Datasheet; ComponentLink2URL: http://www.infineon.com/dgdl/IFX25001_DS_102.pdf?folderId=db3a30431ff988150120802bce1d257a&fileId=db3a304320d39d590120f620f1e269da; ComponentLink3Description: Package Specification; ComponentLink3URL: http://www.infineon.com/dgdl/TLE42744_DS_11.pdf?folderId=db3a304318f3fe290118f5a433570040&fileId=db3a304327b897500128012ccafe37d2&sId=db3a30443d67b5ca013d83f7c0ea327b
footprint INF-PG-TO252-3-1_N (DPAK, 3-Leads, Body 6.525x6.12mm, Pitch 2.28mm, IPC Medium Density)
footprint INF-PG-TO252-3-1_L (DPAK, 3-Leads, Body 6.525x6.12mm, Pitch 2.28mm, IPC High Density)
footprint INF-PG-TO252-3-1_M (DPAK, 3-Leads, Body 6.525x6.12mm, Pitch 2.28mm, IPC Low Density)
pins: 1 I (power) "Input.", 2 GND (power), 3 Q (power) "Output"

## IFX25001TS V10
designator U?
Low Dropout Voltage Regulator, 10.5 to 40 V Operating, 400 mA, -40 to 125 degC, PG-TO220-3-1, Reel, Green; Manufacturer: Infineon; PartNumber: IFX25001TS V10; Accuracy: 4.0 %; Automotive Qualified: FALSE; Dropout Voltage: 250 mV; Green: TRUE; Max. Output Current: 400 mA; Output Voltage: 10 V; Regulator Type: Linear->single output; Typical Quiescent Current: 100 uA; DatasheetVersion: Rev. 1.02; PackageVersion: Jul-12; PackageReference: PG-TO220-3-1; PackageDescription: 3-Pin Plastic (Green) Transistor Single Outline Package, 10 x 9.25 mm Body, 2.54 mm Pitch; Supplier 1: Mouser; Supplier Part Number 1: 726-IFX25001TSV10; Supplier 2: Newark; Supplier Part Number 2: 47W3455; Supplier 3: Farnell; Supplier Part Number 3: 2215571; Supplier 4: Digi-Key; Supplier Part Number 4: IFX25001TS V10-ND; Halogen-free: TRUE; Packing: Reel; Reset: FALSE; Status Output: FALSE; Mounting Technology: Through Hole; ComponentLink1Description: Manufacturer URL; ComponentLink1URL: http://www.infineon.com/; ComponentLink2Description: Datasheet; ComponentLink2URL: http://www.infineon.com/dgdl/IFX25001_DS_102.pdf?folderId=db3a30431ff988150120802bce1d257a&fileId=db3a304320d39d590120f620f1e269da; ComponentLink3Description: Package Specification; ComponentLink3URL: http://www.infineon.com/dgdl/BTS117_DS_14.pdf?folderId=db3a30431400ef68011421b54e2e0564&fileId=db3a30433a747525013abff8302d549c&location=en.Products.Automotive_ICs.Smart_High-_and_Low-Side_Switches.HITFET___TEMPFET__-_Smart_Low-Side_Switches.DATASHEET.BTS117_DS_14.pdf
footprint INF-PG-TO220-3-1 (FM, 3-Leads, Body 10x4.4mm, Pitch 2.54mm)
pins: 1 I (power) "Input", 2 GND (power), 3 Q (power) "Output"

## IFX25001TS V50
designator U?
Low Dropout Voltage Regulator, 5.5 to 40 V Operating, 400 mA, -40 to 125 degC, PG-TO220-3-1, Reel, Green; Manufacturer: Infineon; PartNumber: IFX25001TS V50; Accuracy: 4.0 %; Automotive Qualified: FALSE; Dropout Voltage: 250 mV; Green: TRUE; Max. Output Current: 400 mA; Output Voltage: 5 V; Regulator Type: Linear->single output; Typical Quiescent Current: 100 uA; DatasheetVersion: Rev. 1.02; PackageVersion: Jul-12; PackageReference: PG-TO220-3-1; PackageDescription: 3-Pin Plastic (Green) Transistor Single Outline Package, 10 x 9.25 mm Body, 2.54 mm Pitch; Supplier 1: Mouser; Supplier Part Number 1: 726-IFX25001TSV50; Supplier 2: Newark; Supplier Part Number 2: 47W3456; Supplier 3: Farnell; Supplier Part Number 3: 2215572; Supplier 4: Digi-Key; Supplier Part Number 4: IFX25001TS V50-ND; Halogen-free: TRUE; Packing: Reel; Reset: FALSE; Status Output: FALSE; Mounting Technology: Through Hole; ComponentLink1Description: Manufacturer URL; ComponentLink1URL: http://www.infineon.com/; ComponentLink2Description: Datasheet; ComponentLink2URL: http://www.infineon.com/dgdl/IFX25001_DS_102.pdf?folderId=db3a30431ff988150120802bce1d257a&fileId=db3a304320d39d590120f620f1e269da; ComponentLink3Description: Package Specification; ComponentLink3URL: http://www.infineon.com/dgdl/BTS117_DS_14.pdf?folderId=db3a30431400ef68011421b54e2e0564&fileId=db3a30433a747525013abff8302d549c&location=en.Products.Automotive_ICs.Smart_High-_and_Low-Side_Switches.HITFET___TEMPFET__-_Smart_Low-Side_Switches.DATASHEET.BTS117_DS_14.pdf
footprint INF-PG-TO220-3-1 (FM, 3-Leads, Body 10x4.4mm, Pitch 2.54mm)
pins: 1 I (power) "Input", 2 GND (power), 3 Q (power) "Output"

## IFX25001TS V85
designator U?
Low Dropout Voltage Regulator, 9 to 40 V Operating, 400 mA, -40 to 125 degC, PG-TO220-3-1, Reel, Green; Manufacturer: Infineon; PartNumber: IFX25001TS V85; Accuracy: 4.0 %; Automotive Qualified: FALSE; Dropout Voltage: 250 mV; Green: TRUE; Max. Output Current: 400 mA; Output Voltage: 8.5 V; Regulator Type: Linear->single output; Typical Quiescent Current: 100 uA; DatasheetVersion: Rev. 1.02; PackageVersion: Jul-12; PackageReference: PG-TO220-3-1; PackageDescription: 3-Pin Plastic (Green) Transistor Single Outline Package, 10 x 9.25 mm Body, 2.54 mm Pitch; Supplier 1: Mouser; Supplier Part Number 1: 726-IFX25001TSV85; Supplier 2: Digi-Key; Supplier Part Number 2: IFX25001TS V85-ND; Halogen-free: TRUE; Packing: Reel; Reset: FALSE; Status Output: FALSE; Mounting Technology: Through Hole; ComponentLink1Description: Manufacturer URL; ComponentLink1URL: http://www.infineon.com/; ComponentLink2Description: Datasheet; ComponentLink2URL: http://www.infineon.com/dgdl/IFX25001_DS_102.pdf?folderId=db3a30431ff988150120802bce1d257a&fileId=db3a304320d39d590120f620f1e269da; ComponentLink3Description: Package Specification; ComponentLink3URL: http://www.infineon.com/dgdl/BTS117_DS_14.pdf?folderId=db3a30431400ef68011421b54e2e0564&fileId=db3a30433a747525013abff8302d549c&location=en.Products.Automotive_ICs.Smart_High-_and_Low-Side_Switches.HITFET___TEMPFET__-_Smart_Low-Side_Switches.DATASHEET.BTS117_DS_14.pdf
footprint INF-PG-TO220-3-1 (FM, 3-Leads, Body 10x4.4mm, Pitch 2.54mm)
pins: 1 I (power) "Input", 2 GND (power), 3 Q (power) "Output"

## IFX25401TB V50
designator U?
Low Dropout Linear Voltage Regulator, 5.5 to 40 V Operating, 400 mA, -40 to 125 degC, PG-TO263-5-1, Reel, Green; Manufacturer: Infineon; PartNumber: IFX25401TB V50; Accuracy: 4.0 %; Automotive Qualified: FALSE; Dropout Voltage: 250 mV; Green: TRUE; Max Number Reflow: 3; Max Peak Reflow Temp: 260 degC; Max. Output Current: 400 mA; Output Voltage: 5 V; Regulator Type: Linear->single output; Typical Quiescent Current: 100 uA; DatasheetVersion: Rev. 1.02; PackageVersion: Sep-08; PackageReference: PG-TO263-5-1; PackageDescription: 5-Pin Plastic (Green) Transistor Single Outline Package, 10 x 9.25 mm Body, 1.7 mm Pitch; Supplier 1: Mouser; Supplier Part Number 1: 726-IFX25401TBV50; Supplier 2: Digi-Key; Supplier Part Number 2: IFX25401TB V50INTR-ND; Supplier 3: Digi-Key; Supplier Part Number 3: IFX25401TB V50INCT-ND; Supplier 4: Digi-Key; Supplier Part Number 4: IFX25401TB V50INDKR-ND; Halogen-free: TRUE; MSL: 1; Packing: Reel; Reset: FALSE; Status Output: FALSE; Mounting Technology: Surface Mount; ComponentLink1Description: Manufacturer URL; ComponentLink1URL: http://www.infineon.com/; ComponentLink2Description: Datasheet; ComponentLink2URL: http://www.infineon.com/dgdl/IFX25401_DS_102_2.pdf?folderId=db3a30431ff988150120802bce1d257a&fileId=db3a304320d39d590120f62a690569f7; ComponentLink3Description: Package Specification; ComponentLink3URL: http://www.infineon.com/dgdl/TLE4675_DS10.pdf?folderId=db3a30431ddc9372011e26863f92474e&fileId=db3a30431ff9881501201fa645654e52&sId=db3a30433d68e984013d8b6677a5267d
footprint INF-PG-TO263-5-1_N (DPAK, 5-Leads, Body 10x9.25mm, Pitch 1.7mm, IPC Medium Density)
footprint INF-PG-TO263-5-1_L (DPAK, 5-Leads, Body 10x9.25mm, Pitch 1.7mm, IPC High Density)
footprint INF-PG-TO263-5-1_M (DPAK, 5-Leads, Body 10x9.25mm, Pitch 1.7mm, IPC Low Density)
pins: 1 I (power) "Input", 2 EN (in) "Enable", 3 GND (power) "Ground", 4 NC "Not Connected", 5 Q (power) "Output", 6 EP (power) "Heat Slug"

## IFX25401TBV
designator U?
Low Dropout Linear Voltage Regulator, 4.5 to 40 V Operating, 400 mA, -40 to 125 degC, PG-TO263-5-1, Reel, Green; Manufacturer: Infineon; PartNumber: IFX25401TBV; Accuracy: 4.0 %; Automotive Qualified: FALSE; Dropout Voltage: 250 mV; Green: TRUE; Max Number Reflow: 3; Max Peak Reflow Temp: 260 degC; Max. Output Current: 400 mA; Output Voltage: adj.; Regulator Type: Linear->single output; Typical Quiescent Current: 100 uA; DatasheetVersion: Rev. 1.02; PackageVersion: Sep-08; PackageReference: PG-TO263-5-1; PackageDescription: 5-Pin Plastic (Green) Transistor Single Outline Package, 10 x 9.25 mm Body, 1.7 mm Pitch; Supplier 1: Mouser; Supplier Part Number 1: 726-IFX25401TBV; Supplier 2: Digi-Key; Supplier Part Number 2: IFX25401TBVINTR-ND; Supplier 3: Digi-Key; Supplier Part Number 3: IFX25401TBVINCT-ND; Supplier 4: Digi-Key; Supplier Part Number 4: IFX25401TBVINDKR-ND; Halogen-free: TRUE; MSL: 1; Packing: Reel; Reset: FALSE; Status Output: FALSE; Mounting Technology: Surface Mount; ComponentLink1Description: Manufacturer URL; ComponentLink1URL: http://www.infineon.com/; ComponentLink2Description: Datasheet; ComponentLink2URL: http://www.infineon.com/dgdl/IFX25401_DS_102_2.pdf?folderId=db3a30431ff988150120802bce1d257a&fileId=db3a304320d39d590120f62a690569f7; ComponentLink3Description: Package Specification; ComponentLink3URL: http://www.infineon.com/dgdl/TLE4675_DS10.pdf?folderId=db3a30431ddc9372011e26863f92474e&fileId=db3a30431ff9881501201fa645654e52&sId=db3a30433d68e984013d8b6677a5267d
footprint INF-PG-TO263-5-1_N (DPAK, 5-Leads, Body 10x9.25mm, Pitch 1.7mm, IPC Medium Density)
footprint INF-PG-TO263-5-1_L (DPAK, 5-Leads, Body 10x9.25mm, Pitch 1.7mm, IPC High Density)
footprint INF-PG-TO263-5-1_M (DPAK, 5-Leads, Body 10x9.25mm, Pitch 1.7mm, IPC Low Density)
pins: 1 I (power) "Input", 2 EN (in) "Enable", 3 GND (power) "Ground", 4 VA (in) "Voltage Adjust", 5 Q (power) "Output", 6 EP (power) "Heat Slug"

## IFX25401TE V50
designator U?
Low Dropout Linear Voltage Regulator, 5.5 to 40 V Operating, 400 mA, -40 to 125 degC, PG-TO252-5-11, Reel, Green; Manufacturer: Infineon; PartNumber: IFX25401TE V50; Accuracy: 4.0 %; Automotive Qualified: FALSE; Dropout Voltage: 250 mV; Green: TRUE; Max Number Reflow: 3; Max Peak Reflow Temp: 260 degC; Max. Output Current: 400 mA; Output Voltage: 5 V; Regulator Type: Linear->single output; Typical Quiescent Current: 100 uA; DatasheetVersion: Rev. 1.02; PackageVersion: Nov-10; PackageReference: PG-TO252-5-11; PackageDescription: 5-Pin Plastic (Green) Transistor Single Outline Package, 6.5 x 6.12 mm Body, 1.14 mm Pitch; Supplier 1: Mouser; Supplier Part Number 1: 726-IFX25401TEV50; Supplier 2: Digi-Key; Supplier Part Number 2: IFX25401TE V50INTR-ND; Supplier 3: Digi-Key; Supplier Part Number 3: IFX25401TE V50INCT-ND; Supplier 4: Digi-Key; Supplier Part Number 4: IFX25401TE V50INDKR-ND; Halogen-free: TRUE; MSL: 1; Packing: Reel; Reset: FALSE; Status Output: FALSE; Mounting Technology: Surface Mount; ComponentLink1Description: Manufacturer URL; ComponentLink1URL: http://www.infineon.com/; ComponentLink2Description: Datasheet; ComponentLink2URL: http://www.infineon.com/dgdl/IFX25401_DS_102_2.pdf?folderId=db3a30431ff988150120802bce1d257a&fileId=db3a304320d39d590120f62a690569f7; ComponentLink3Description: Package Specification; ComponentLink3URL: http://www.infineon.com/dgdl/TLE7276-Data+Sheet-+v1_11.pdf?folderId=db3a304412b407950112b408e8c90004&fileId=db3a304412b407950112b436c53f66c8&sId=db3a30433db6f09f013dc0e43c0428c1
footprint INF-PG-TO252-5-11_N (DPAK, 5-Leads, Body 6.5x6.12mm, Pitch 1.14mm, IPC Medium Density)
footprint INF-PG-TO252-5-11_L (DPAK, 5-Leads, Body 6.5x6.12mm, Pitch 1.14mm, IPC High Density)
footprint INF-PG-TO252-5-11_M (DPAK, 5-Leads, Body 6.5x6.12mm, Pitch 1.14mm, IPC Low Density)
pins: 1 I (power) "Input", 2 EN (in) "Enable", 3 GND (power) "Heat Slug", 4 NC "Not Connected", 5 Q (power) "Output"

## IFX25401TEV
designator U?
Low Dropout Linear Voltage Regulator, 4.5 to 40 V Operating, 400 mA, -40 to 125 degC, PG-TO252-5-11, Reel, Green; Manufacturer: Infineon; PartNumber: IFX25401TEV; Accuracy: 4.0 %; Automotive Qualified: FALSE; Dropout Voltage: 250 mV; Green: TRUE; Max Number Reflow: 3; Max Peak Reflow Temp: 260 degC; Max. Output Current: 400 mA; Output Voltage: adj.; Regulator Type: Linear->single output; Typical Quiescent Current: 100 uA; DatasheetVersion: Rev. 1.02; PackageVersion: Nov-10; PackageReference: PG-TO252-5-11; PackageDescription: 5-Pin Plastic (Green) Transistor Single Outline Package, 6.5 x 6.12 mm Body, 1.14 mm Pitch; Supplier 1: Mouser; Supplier Part Number 1: 726-IFX25401TEV; Supplier 2: Newark; Supplier Part Number 2: 78X5180; Supplier 3: Farnell; Supplier Part Number 3: 2432503; Supplier 4: Digi-Key; Supplier Part Number 4: IFX25401TEVINTR-ND; Supplier 5: Digi-Key; Supplier Part Number 5: IFX25401TEVINCT-ND; Supplier 6: Digi-Key; Supplier Part Number 6: IFX25401TEVINDKR-ND; Halogen-free: TRUE; MSL: 1; Packing: Reel; Reset: FALSE; Status Output: FALSE; Mounting Technology: Surface Mount; ComponentLink1Description: Manufacturer URL; ComponentLink1URL: http://www.infineon.com/; ComponentLink2Description: Datasheet; ComponentLink2URL: http://www.infineon.com/dgdl/IFX25401_DS_102_2.pdf?folderId=db3a30431ff988150120802bce1d257a&fileId=db3a304320d39d590120f62a690569f7; ComponentLink3Description: Package Specification; ComponentLink3URL: http://www.infineon.com/dgdl/TLE7276-Data+Sheet-+v1_11.pdf?folderId=db3a304412b407950112b408e8c90004&fileId=db3a304412b407950112b436c53f66c8&sId=db3a30433db6f09f013dc0e43c0428c1
footprint INF-PG-TO252-5-11_N (DPAK, 5-Leads, Body 6.5x6.12mm, Pitch 1.14mm, IPC Medium Density)
footprint INF-PG-TO252-5-11_L (DPAK, 5-Leads, Body 6.5x6.12mm, Pitch 1.14mm, IPC High Density)
footprint INF-PG-TO252-5-11_M (DPAK, 5-Leads, Body 6.5x6.12mm, Pitch 1.14mm, IPC Low Density)
pins: 1 I (power) "Input", 2 EN (in) "Enable", 3 GND (power) "Heat Slug", 4 VA (in) "Voltage Adjust", 5 Q (power) "Output"

## IFX27001TF V15
designator U?
Linear Voltage Regulator, 3.2 to 40 V Operating, 1000 mA, -40 to 125 degC, PG-TO252-3-11, Reel, Green; Manufacturer: Infineon; PartNumber: IFX27001TF V15; Accuracy: 3.0 %; Automotive Qualified: FALSE; Dropout Voltage: 1300 mV; Green: TRUE; Max Number Reflow: 3; Max Peak Reflow Temp: 260 degC; Max. Output Current: 1000 mA; Output Voltage: 1.5 V; Regulator Type: Linear->single output; Typical Quiescent Current: 800 uA; DatasheetVersion: Rev. 1.01; PackageVersion: Dec-06; PackageReference: PG-TO252-3-11; PackageDescription: 3-Pin Plastic (Green) Transistor Single Outline Package, 6.5 x 6.12 mm Body, 2.28 mm Pitch; Supplier 1: Mouser; Supplier Part Number 1: 726-IFX27001TFV15; Supplier 2: Digi-Key; Supplier Part Number 2: IFX27001TF V15INTR-ND; Supplier 3: Digi-Key; Supplier Part Number 3: IFX27001TF V15INCT-ND; Supplier 4: Digi-Key; Supplier Part Number 4: IFX27001TF V15INDKR-ND; Halogen-free: TRUE; MSL: 1; Packing: Reel; Reset: FALSE; Status Output: FALSE; Mounting Technology: Surface Mount; ComponentLink1Description: Manufacturer URL; ComponentLink1URL: http://www.infineon.com/; ComponentLink2Description: Datasheet; ComponentLink2URL: http://www.infineon.com/dgdl/IFX27001_DS_101.pdf?folderId=db3a30431ff988150120802bce1d257a&fileId=db3a304320d39d590120f62f022a6a03; ComponentLink3Description: Package Specification; ComponentLink3URL: http://www.infineon.com/dgdl/BTS142_DS_13.pdf?folderId=db3a3043163797a6011667aa084c0e01&fileId=db3a3043163797a6011667ac98be0e02&location=en.Products.Automotive_ICs.Smart_High-_and_Low-Side_Switches.HITFET___TEMPFET__-_Smart_Low-Side_Switches.DATASHEET.BTS142_DS_13.pdf
footprint INF-PG-TO252-3-11_N (DPAK, 3-Leads, Body 6.5x6.12mm, Pitch 2.28mm, IPC Medium Density)
footprint INF-PG-TO252-3-11_L (DPAK, 3-Leads, Body 6.5x6.12mm, Pitch 2.28mm, IPC High Density)
footprint INF-PG-TO252-3-11_M (DPAK, 3-Leads, Body 6.5x6.12mm, Pitch 2.28mm, IPC Low Density)
pins: 1 GND (power), 2 Q (power) "Output; Connect a capacitor CQ >= 10 uF with ESR =< 10 ohm between pin Q and GND Connect to heatsink area.", 3 I (power) "Input"

## IFX27001TF V18
designator U?
Linear Voltage Regulator, 3.2 to 40 V Operating, 1000 mA, -40 to 125 degC, PG-TO252-3-11, Reel, Green; Manufacturer: Infineon; PartNumber: IFX27001TF V18; Accuracy: 3.0 %; Automotive Qualified: FALSE; Dropout Voltage: 1300 mV; Green: TRUE; Max Number Reflow: 3; Max Peak Reflow Temp: 260 degC; Max. Output Current: 1000 mA; Output Voltage: 1.8 V; Regulator Type: Linear->single output; Typical Quiescent Current: 800 uA; DatasheetVersion: Rev. 1.01; PackageVersion: Dec-06; PackageReference: PG-TO252-3-11; PackageDescription: 3-Pin Plastic (Green) Transistor Single Outline Package, 6.5 x 6.12 mm Body, 2.28 mm Pitch; Supplier 1: Mouser; Supplier Part Number 1: 726-IFX27001TFV18; Supplier 2: Digi-Key; Supplier Part Number 2: IFX27001TF V18INTR-ND; Supplier 3: Digi-Key; Supplier Part Number 3: IFX27001TF V18INCT-ND; Supplier 4: Digi-Key; Supplier Part Number 4: IFX27001TF V18INDKR-ND; Halogen-free: TRUE; MSL: 1; Packing: Reel; Reset: FALSE; Status Output: FALSE; Mounting Technology: Surface Mount; ComponentLink1Description: Manufacturer URL; ComponentLink1URL: http://www.infineon.com/; ComponentLink2Description: Datasheet; ComponentLink2URL: http://www.infineon.com/dgdl/IFX27001_DS_101.pdf?folderId=db3a30431ff988150120802bce1d257a&fileId=db3a304320d39d590120f62f022a6a03; ComponentLink3Description: Package Specification; ComponentLink3URL: http://www.infineon.com/dgdl/BTS142_DS_13.pdf?folderId=db3a3043163797a6011667aa084c0e01&fileId=db3a3043163797a6011667ac98be0e02&location=en.Products.Automotive_ICs.Smart_High-_and_Low-Side_Switches.HITFET___TEMPFET__-_Smart_Low-Side_Switches.DATASHEET.BTS142_DS_13.pdf
footprint INF-PG-TO252-3-11_N (DPAK, 3-Leads, Body 6.5x6.12mm, Pitch 2.28mm, IPC Medium Density)
footprint INF-PG-TO252-3-11_L (DPAK, 3-Leads, Body 6.5x6.12mm, Pitch 2.28mm, IPC High Density)
footprint INF-PG-TO252-3-11_M (DPAK, 3-Leads, Body 6.5x6.12mm, Pitch 2.28mm, IPC Low Density)
pins: 1 GND (power), 2 Q (power) "Output", 3 I (power) "Input"